# Altium footprint library X-Connectors.PcbLib: 45 footprints (part 3 of 3)
Each footprint in its own frame and in the unit in brackets; x right, y up, seen from the top. Pads: shape width x height; smd on the part's side, far side on the other; paste and mask are expansions set on the pad; w line width, h text height; cw(c..) or ccw(c..) is an arc to the next point about the centre after c.
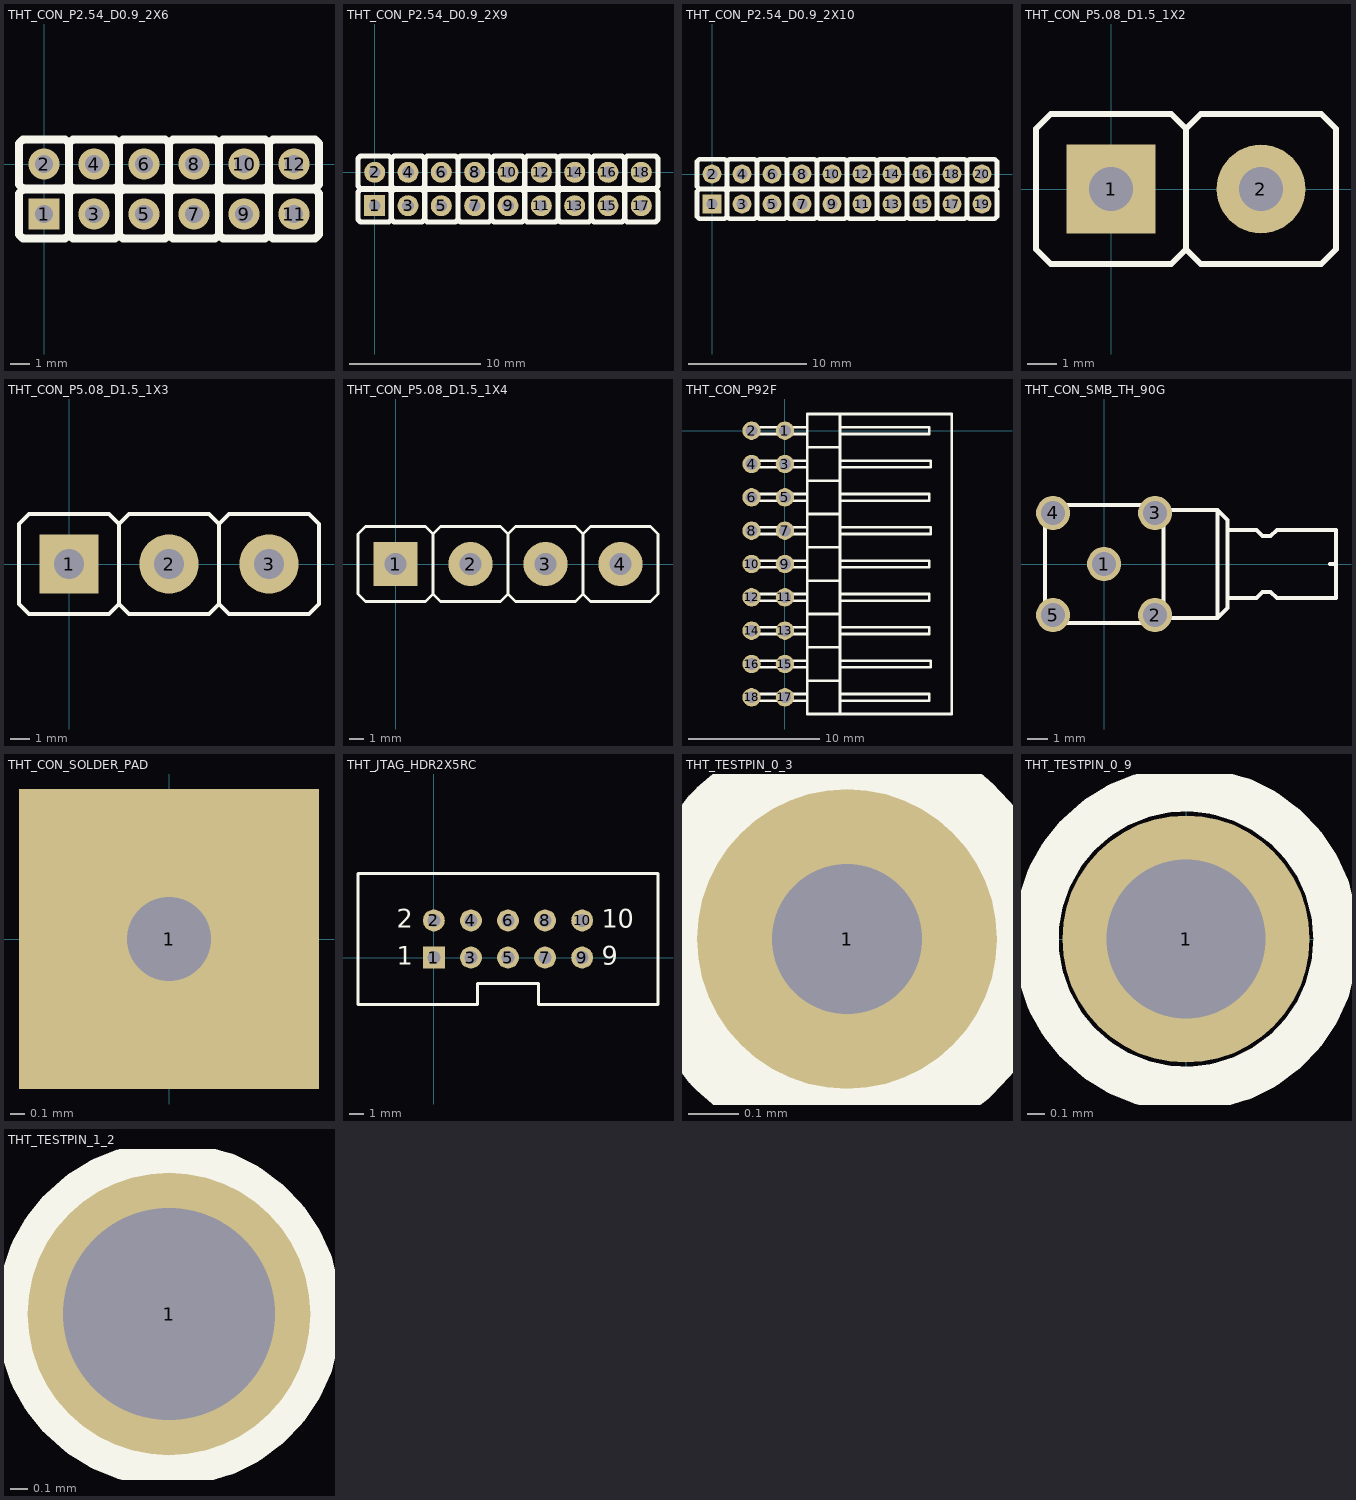
[diagram p2: the footprints below, top view; thin cyan lines are the x and y axes]

## THT_CON_P2.54_D0.9_2X6 [mm]
pads (12):
  rect 1.6x1.6 hole 0.9: 1(0,-2.54)
  round 1.6 hole 0.9: 2(0,0) 3(2.54,-2.54) 4(2.54,0) 5(5.08,-2.54) 6(5.08,0) 7(7.62,-2.54) 8(7.62,0) 9(10.16,-2.54) 10(10.16,0) 11(12.7,-2.54) 12(12.7,0)
Top Overlay:
  lines w0.4: 1.23,-1.45 1.07,-1.29 -1.07,-1.29 -1.27,-1.49 -1.27,-3.59 -1.07,-3.79 1.07,-3.79 1.27,-3.59 ; 1.23,1.09 1.07,1.25 -1.07,1.25 -1.27,1.05 -1.27,-1.05 -1.07,-1.25 1.07,-1.25 1.27,-1.05 ; 3.77,-1.45 3.61,-1.29 1.47,-1.29 1.27,-1.49 1.27,-3.59 ; 3.77,1.09 3.61,1.25 1.47,1.25 1.27,1.05 1.27,-1.05 ; 6.31,-1.45 6.15,-1.29 4.01,-1.29 3.81,-1.49 3.81,-3.59 ; 6.31,1.09 6.15,1.25 4.01,1.25 3.81,1.05 3.81,-1.05 ; 8.85,-1.45 8.69,-1.29 6.55,-1.29 6.35,-1.49 6.35,-3.59 ; 8.85,1.09 8.69,1.25 6.55,1.25 6.35,1.05 6.35,-1.05 ; 11.39,-1.45 11.23,-1.29 9.09,-1.29 8.89,-1.49 8.89,-3.59 ; 11.39,1.09 11.23,1.25 9.09,1.25 8.89,1.05 8.89,-1.05 ; 13.93,-1.45 13.77,-1.29 11.63,-1.29 11.43,-1.49 11.43,-3.59 ; 13.93,1.09 13.77,1.25 11.63,1.25 11.43,1.05 11.43,-1.05 ; 13.97,-1.49 13.97,-3.59 13.77,-3.79 11.63,-3.79 11.43,-3.59 ; 13.97,1.05 13.97,-1.05 13.77,-1.25 11.63,-1.25 11.43,-1.05 ; 1.27,-3.59 1.47,-3.79 3.61,-3.79 3.81,-3.59 ; 1.27,-1.05 1.47,-1.25 3.61,-1.25 3.81,-1.05 ; 3.81,-3.59 4.01,-3.79 6.15,-3.79 6.35,-3.59 ; 3.81,-1.05 4.01,-1.25 6.15,-1.25 6.35,-1.05 ; 6.35,-3.59 6.55,-3.79 8.69,-3.79 8.89,-3.59 ; 6.35,-1.05 6.55,-1.25 8.69,-1.25 8.89,-1.05 ; 8.89,-3.59 9.09,-3.79 11.23,-3.79 11.43,-3.59 ; 8.89,-1.05 9.09,-1.25 11.23,-1.25 11.43,-1.05

## THT_CON_P2.54_D0.9_2X9 [mm]
pads (18):
  rect 1.6x1.6 hole 0.9: 1(0,-2.54)
  round 1.6 hole 0.9: 2(0,0) 3(2.54,-2.54) 4(2.54,0) 5(5.08,-2.54) 6(5.08,0) 7(7.62,-2.54) 8(7.62,0) 9(10.16,-2.54) 10(10.16,0) 11(12.7,-2.54) 12(12.7,0) 13(15.24,-2.54) 14(15.24,0) 15(17.78,-2.54) 16(17.78,0) 17(20.32,-2.54) 18(20.32,0)
Top Overlay:
  lines w0.4: 1.23,-1.45 1.07,-1.29 -1.07,-1.29 -1.27,-1.49 -1.27,-3.59 -1.07,-3.79 1.07,-3.79 1.27,-3.59 ; 1.23,1.09 1.07,1.25 -1.07,1.25 -1.27,1.05 -1.27,-1.05 -1.07,-1.25 1.07,-1.25 1.27,-1.05 ; 3.77,-1.45 3.61,-1.29 1.47,-1.29 1.27,-1.49 1.27,-3.59 ; 3.77,1.09 3.61,1.25 1.47,1.25 1.27,1.05 1.27,-1.05 ; 6.31,-1.45 6.15,-1.29 4.01,-1.29 3.81,-1.49 3.81,-3.59 ; 6.31,1.09 6.15,1.25 4.01,1.25 3.81,1.05 3.81,-1.05 ; 8.85,-1.45 8.69,-1.29 6.55,-1.29 6.35,-1.49 6.35,-3.59 ; 8.85,1.09 8.69,1.25 6.55,1.25 6.35,1.05 6.35,-1.05 ; 11.39,-1.45 11.23,-1.29 9.09,-1.29 8.89,-1.49 8.89,-3.59 ; 11.39,1.09 11.23,1.25 9.09,1.25 8.89,1.05 8.89,-1.05 ; 13.93,-1.45 13.77,-1.29 11.63,-1.29 11.43,-1.49 11.43,-3.59 ; 13.93,1.09 13.77,1.25 11.63,1.25 11.43,1.05 11.43,-1.05 ; 16.47,-1.45 16.31,-1.29 14.17,-1.29 13.97,-1.49 13.97,-3.59 ; 16.47,1.09 16.31,1.25 14.17,1.25 13.97,1.05 13.97,-1.05 ; 19.01,-1.45 18.85,-1.29 16.71,-1.29 16.51,-1.49 16.51,-3.59 ; 19.01,1.09 18.85,1.25 16.71,1.25 16.51,1.05 16.51,-1.05 ; 21.55,-1.45 21.39,-1.29 19.25,-1.29 19.05,-1.49 19.05,-3.59 ; 21.55,1.09 21.39,1.25 19.25,1.25 19.05,1.05 19.05,-1.05 ; 21.59,-1.49 21.59,-3.59 21.39,-3.79 19.25,-3.79 19.05,-3.59 ; 21.59,1.05 21.59,-1.05 21.39,-1.25 19.25,-1.25 19.05,-1.05 ; 1.27,-3.59 1.47,-3.79 3.61,-3.79 3.81,-3.59 ; 1.27,-1.05 1.47,-1.25 3.61,-1.25 3.81,-1.05 ; 3.81,-3.59 4.01,-3.79 6.15,-3.79 6.35,-3.59 ; 3.81,-1.05 4.01,-1.25 6.15,-1.25 6.35,-1.05 ; 6.35,-3.59 6.55,-3.79 8.69,-3.79 8.89,-3.59 ; 6.35,-1.05 6.55,-1.25 8.69,-1.25 8.89,-1.05 ; 8.89,-3.59 9.09,-3.79 11.23,-3.79 11.43,-3.59 ; 8.89,-1.05 9.09,-1.25 11.23,-1.25 11.43,-1.05 ; 11.43,-3.59 11.63,-3.79 13.77,-3.79 13.97,-3.59 ; 11.43,-1.05 11.63,-1.25 13.77,-1.25 13.97,-1.05 ; 13.97,-3.59 14.17,-3.79 16.31,-3.79 16.51,-3.59 ; 13.97,-1.05 14.17,-1.25 16.31,-1.25 16.51,-1.05 ; 16.51,-3.59 16.71,-3.79 18.85,-3.79 19.05,-3.59 ; 16.51,-1.05 16.71,-1.25 18.85,-1.25 19.05,-1.05

## THT_CON_P2.54_D0.9_2X10 [mm]
pads (20):
  rect 1.6x1.6 hole 0.9: 1(0,-2.54)
  round 1.6 hole 0.9: 2(0,0) 3(2.54,-2.54) 4(2.54,0) 5(5.08,-2.54) 6(5.08,0) 7(7.62,-2.54) 8(7.62,0) 9(10.16,-2.54) 10(10.16,0) 11(12.7,-2.54) 12(12.7,0) 13(15.24,-2.54) 14(15.24,0) 15(17.78,-2.54) 16(17.78,0) 17(20.32,-2.54) 18(20.32,0) 19(22.86,-2.54) 20(22.86,0)
Top Overlay:
  lines w0.4: 1.23,-1.45 1.07,-1.29 -1.07,-1.29 -1.27,-1.49 -1.27,-3.59 -1.07,-3.79 1.07,-3.79 1.27,-3.59 ; 1.23,1.09 1.07,1.25 -1.07,1.25 -1.27,1.05 -1.27,-1.05 -1.07,-1.25 1.07,-1.25 1.27,-1.05 ; 3.77,-1.45 3.61,-1.29 1.47,-1.29 1.27,-1.49 1.27,-3.59 ; 3.77,1.09 3.61,1.25 1.47,1.25 1.27,1.05 1.27,-1.05 ; 6.31,-1.45 6.15,-1.29 4.01,-1.29 3.81,-1.49 3.81,-3.59 ; 6.31,1.09 6.15,1.25 4.01,1.25 3.81,1.05 3.81,-1.05 ; 8.85,-1.45 8.69,-1.29 6.55,-1.29 6.35,-1.49 6.35,-3.59 ; 8.85,1.09 8.69,1.25 6.55,1.25 6.35,1.05 6.35,-1.05 ; 11.39,-1.45 11.23,-1.29 9.09,-1.29 8.89,-1.49 8.89,-3.59 ; 11.39,1.09 11.23,1.25 9.09,1.25 8.89,1.05 8.89,-1.05 ; 13.93,-1.45 13.77,-1.29 11.63,-1.29 11.43,-1.49 11.43,-3.59 ; 13.93,1.09 13.77,1.25 11.63,1.25 11.43,1.05 11.43,-1.05 ; 16.47,-1.45 16.31,-1.29 14.17,-1.29 13.97,-1.49 13.97,-3.59 ; 16.47,1.09 16.31,1.25 14.17,1.25 13.97,1.05 13.97,-1.05 ; 19.01,-1.45 18.85,-1.29 16.71,-1.29 16.51,-1.49 16.51,-3.59 ; 19.01,1.09 18.85,1.25 16.71,1.25 16.51,1.05 16.51,-1.05 ; 21.55,-1.45 21.39,-1.29 19.25,-1.29 19.05,-1.49 19.05,-3.59 ; 21.55,1.09 21.39,1.25 19.25,1.25 19.05,1.05 19.05,-1.05 ; 24.09,-1.45 23.93,-1.29 21.79,-1.29 21.59,-1.49 ; 24.09,1.09 23.93,1.25 21.79,1.25 21.59,1.05 ; 24.13,-1.49 24.13,-3.59 23.93,-3.79 21.79,-3.79 21.59,-3.59 ; 24.13,1.05 24.13,-1.05 23.93,-1.25 21.79,-1.25 21.59,-1.05 ; 1.27,-3.59 1.47,-3.79 3.61,-3.79 3.81,-3.59 ; 1.27,-1.05 1.47,-1.25 3.61,-1.25 3.81,-1.05 ; 3.81,-3.59 4.01,-3.79 6.15,-3.79 6.35,-3.59 ; 3.81,-1.05 4.01,-1.25 6.15,-1.25 6.35,-1.05 ; 6.35,-3.59 6.55,-3.79 8.69,-3.79 8.89,-3.59 ; 6.35,-1.05 6.55,-1.25 8.69,-1.25 8.89,-1.05 ; 8.89,-3.59 9.09,-3.79 11.23,-3.79 11.43,-3.59 ; 8.89,-1.05 9.09,-1.25 11.23,-1.25 11.43,-1.05 ; 11.43,-3.59 11.63,-3.79 13.77,-3.79 13.97,-3.59 ; 11.43,-1.05 11.63,-1.25 13.77,-1.25 13.97,-1.05 ; 13.97,-3.59 14.17,-3.79 16.31,-3.79 16.51,-3.59 ; 13.97,-1.05 14.17,-1.25 16.31,-1.25 16.51,-1.05 ; 16.51,-3.59 16.71,-3.79 18.85,-3.79 19.05,-3.59 ; 16.51,-1.05 16.71,-1.25 18.85,-1.25 19.05,-1.05 ; 19.05,-3.59 19.25,-3.79 21.39,-3.79 21.59,-3.59 ; 19.05,-1.05 19.25,-1.25 21.39,-1.25 21.59,-1.05 ; 21.59,-3.59 21.59,-1.49 ; 21.59,-3.59 21.59,-1.49 ; 21.59,-1.05 21.59,1.05 ; 21.59,-1.05 21.59,1.05

## THT_CON_P5.08_D1.5_1X2 [mm]
pads (2):
  rect 3x3 hole 1.5: 1(0,0)
  round 3 hole 1.5: 2(5.08,0)
Top Overlay:
  lines w0.2: 2.54,-2.04 2.04,-2.54 -2.04,-2.54 -2.54,-2.04 -2.54,2.04 -2.04,2.54 2.04,2.54 2.54,2.04 ; 2.54,-2.04 2.54,2.04 ; 2.54,-2.04 3.04,-2.54 7.12,-2.54 7.62,-2.04 7.62,2.04 7.12,2.54 3.04,2.54 2.54,2.04

## THT_CON_P5.08_D1.5_1X3 [mm] "THT_CON_P5.08_D1.5_1X3"
pads (3):
  rect 3x3 hole 1.5: 1(0,0)
  round 3 hole 1.5: 2(5.08,0) 3(10.16,0)
Top Overlay:
  lines w0.2: 2.54,-2.04 2.04,-2.54 -2.04,-2.54 -2.54,-2.04 -2.54,2.04 -2.04,2.54 2.04,2.54 2.54,2.04 ; 2.54,-2.04 2.54,2.04 ; 2.54,-2.04 3.04,-2.54 7.12,-2.54 7.62,-2.04 ; 2.54,2.04 3.04,2.54 7.12,2.54 7.62,2.04 ; 7.62,-2.04 8.12,-2.54 12.2,-2.54 12.7,-2.04 12.7,2.04 12.2,2.54 8.12,2.54 7.62,2.04 ; 7.62,-2.04 7.62,2.04

## THT_CON_P5.08_D1.5_1X4 [mm] "THT_CON_P5.08_D1.5_1X4"
pads (4):
  rect 3x3 hole 1.5: 1(0,0)
  round 3 hole 1.5: 2(5.08,0) 3(10.16,0) 4(15.24,0)
Top Overlay:
  lines w0.2: 2.54,-2.04 2.04,-2.54 -2.04,-2.54 -2.54,-2.04 -2.54,2.04 -2.04,2.54 2.04,2.54 2.54,2.04 ; 2.54,-2.04 2.54,2.04 ; 2.54,-2.04 3.04,-2.54 7.12,-2.54 7.62,-2.04 ; 2.54,2.04 3.04,2.54 7.12,2.54 7.62,2.04 ; 7.62,-2.04 8.12,-2.54 12.2,-2.54 12.7,-2.04 ; 7.62,-2.04 7.62,2.04 ; 7.62,2.04 8.12,2.54 12.2,2.54 12.7,2.04 ; 12.7,-2.04 13.2,-2.54 17.28,-2.54 17.78,-2.04 17.78,2.04 17.28,2.54 13.2,2.54 12.7,2.04 ; 12.7,-2.04 12.7,2.04

## THT_CON_P92F [mm]
pads (18):
  round 1.4 hole 0.9: 1(0,0) 2(-2.54,0) 3(0,-2.54) 4(-2.54,-2.54) 5(0,-5.08) 6(-2.54,-5.08) 7(0,-7.62) 8(-2.54,-7.62) 9(0,-10.16) 10(-2.54,-10.16) 11(0,-12.7) 12(-2.54,-12.7) 13(0,-15.24) 14(-2.54,-15.24) 15(0,-17.78) 16(-2.54,-17.78) 17(0,-20.32) 18(-2.54,-20.32)
Top Overlay:
  lines w0.2: 1.6,-2.794 -2.9,-2.794 -2.9,-2.286 1.6,-2.286 ; 1.7,-20.574 -2.8,-20.574 -2.8,-20.066 1.7,-20.066 ; 1.7,-19.05 4.2,-19.05 ; 1.7,-18.034 -2.8,-18.034 -2.8,-17.526 1.7,-17.526 ; 1.7,-16.51 4.2,-16.51 ; 1.7,-15.494 -2.8,-15.494 -2.8,-14.986 1.7,-14.986 ; 1.7,-13.97 4.2,-13.97 ; 1.7,-11.43 4.2,-11.43 ; 1.7,-8.89 4.2,-8.89 ; 1.7,-7.874 -2.8,-7.874 -2.8,-7.366 1.7,-7.366 ; 1.7,-3.81 4.2,-3.81 ; 1.7,-1.27 4.2,-1.27 ; 1.7,-0.254 -2.8,-0.254 -2.8,0.254 1.7,0.254 ; 4.2,-20.574 11,-20.574 11,-20.066 4.2,-20.066 ; 4.2,-15.494 11,-15.494 11,-14.986 4.2,-14.986 ; 4.2,-12.954 11,-12.954 11,-12.446 4.2,-12.446 ; 4.2,-10.414 11,-10.414 11,-9.906 4.2,-9.906 ; 4.2,-5.334 11,-5.334 11,-4.826 4.2,-4.826 ; 4.2,-0.254 11,-0.254 11,0.254 4.2,0.254 ; 4.3,-18.034 11.1,-18.034 11.1,-17.526 4.3,-17.526 ; 4.3,-7.874 11.1,-7.874 11.1,-7.366 4.3,-7.366 ; 4.3,-2.794 11.1,-2.794 11.1,-2.286 4.3,-2.286 ; -2.8,-12.954 -2.8,-12.446 ; -2.8,-12.954 1.7,-12.954 -2.8,-12.954 ; -2.8,-12.954 -2.8,-12.446 ; -2.8,-12.446 1.7,-12.446 -2.8,-12.446 ; -2.8,-10.414 -2.8,-9.906 ; -2.8,-10.414 1.7,-10.414 -2.8,-10.414 ; -2.8,-10.414 -2.8,-9.906 ; -2.8,-9.906 1.7,-9.906 -2.8,-9.906 ; -2.8,-5.334 -2.8,-4.826 ; -2.8,-5.334 1.7,-5.334 -2.8,-5.334 ; -2.8,-5.334 -2.8,-4.826 ; -2.8,-4.826 1.7,-4.826 -2.8,-4.826 ; 4.2,-21.59 1.7,-21.59 1.7,1.27 4.2,1.27 ; 4.2,-21.59 4.2,1.27 ; 4.2,-21.59 12.7,-21.59 12.7,1.27 4.2,1.27 ; 1.7,-6.35 4.2,-6.35 1.7,-6.35

## THT_CON_SMB_TH_90G [mm]
pads (5):
  round 1.7 hole 1.2: 1(0,0) 2(2.54,-2.54) 3(2.54,2.54) 4(-2.54,2.54) 5(-2.54,-2.54)
Top Overlay:
  lines w0.2: 2.95,-2.7 5.65,-2.7 ; 2.95,2.7 5.65,2.7 ; 11.25,0 11.55,0 ; 5.65,-2.7 6.15,-2.2 6.15,-1.7 ; 5.65,-2.7 5.65,2.7 ; 5.65,2.7 6.15,2.2 6.15,1.7 ; 6.15,-1.7 6.15,-1.7 ; 6.15,-1.7 7.6,-1.7 7.9,-1.4 8.3,-1.4 8.6,-1.7 11.55,-1.7 11.55,1.7 8.6,1.7 8.3,1.4 7.9,1.4 7.6,1.7 6.15,1.7 ; 6.15,-1.7 6.15,1.7 ; 6.15,1.7 6.15,1.7 ; -2.95,-2.95 -2.95,2.95 2.95,2.95 2.95,-2.95 -2.95,-2.95

## THT_CON_SOLDER_PAD [mm]
pads (1):
  rect 2.14x2.14 hole 0.6: 1(0,0)

## THT_JTAG_HDR2X5RC [mm] "THT_JTAG_HDR2X5RC"
pads (10):
  rect 1.5x1.5 hole 0.9: 1(0.007,0.008)
  round 1.5 hole 0.9: 2(0.007,2.548) 3(2.547,0.008) 4(2.547,2.548) 5(5.087,0.008) 6(5.087,2.548) 7(7.627,0.008) 8(7.627,2.548) 9(10.167,0.008) 10(10.167,2.548)
Top Overlay:
  lines w0.2: -1.263,5.778 -5.193,5.778 ; -5.193,5.778 15.367,5.778 15.367,0.008 15.367,-3.222 7.187,-3.222 7.187,-1.782 2.987,-1.782 2.987,-3.222 -5.193,-3.222 -5.193,5.778
  text "2" at -2.533,2.04 h1.27
  text "1" at -2.533,-0.5 h1.27
  text "9" at 11.511,-0.5 h1.27
  text "10" at 11.511,2.04 h1.27

## THT_TESTPIN_0_3 [mm]
pads (1):
  round 0.6 hole 0.3: 1(0,0)
Top Overlay:
  circle w0.254: c0,0 r0.3

## THT_TESTPIN_0_9 [mm]
pads (1):
  round 1.4 hole 0.9: 1(0,0)
Top Overlay:
  circle w0.254: c0,0 r0.848

## THT_TESTPIN_1_2 [mm]
pads (1):
  round 1.6 hole 1.2: 1(0,0)
Top Overlay:
  circle w0.254: c0,0 r0.848